# Altium footprint library PCB - LIGHT PIPE - BIVAR SLP-1-3.PCBLIB: 1 footprints
Each footprint in its own frame and in the unit in brackets; x right, y up, seen from the top. Pads: shape width x height; smd on the part's side, far side on the other; paste and mask are expansions set on the pad; w line width, h text height; cw(c..) or ccw(c..) is an arc to the next point about the centre after c.
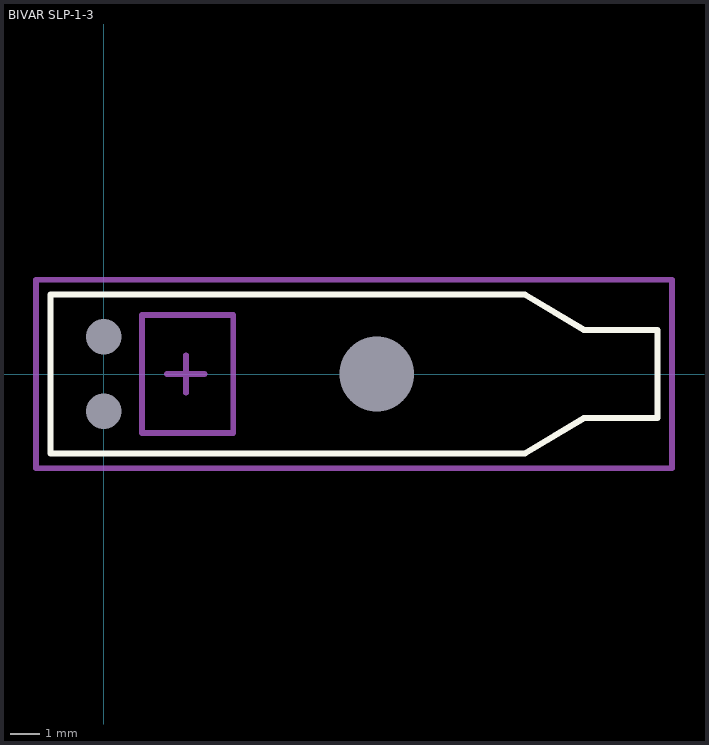
[diagram p0: the footprint, top view; thin cyan lines are the x and y axes]

## BIVAR SLP-1-3 [mm]
height 6
pads (3):
  rect 0x0 hole 1.2 unplated: M(0,-1.27) M(0,1.27)
  rect 0x0 hole 2.54 unplated: M(9.271,0)
Top Overlay:
  lines w0.2: -1.8,-2.7 -1.8,0 -1.8,2.7 14.3,2.7 16.3,1.5 18.8,1.5 18.8,0 18.8,-1.5 16.3,-1.5 14.3,-2.7 -1.8,-2.7
Mechanical 1:
  lines w0.2: 2.159,0 3.429,0 ; 2.794,-0.635 2.794,0.635 ; 1.3,-2 4.4,-2 4.4,2 1.3,2 1.3,-2
Mechanical 15:
  lines w0.2: -2.3,-3.2 19.3,-3.2 19.3,3.2 -2.3,3.2 -2.3,-3.2
3D body "SLP-1-3.STEP": height 5.97, standoff -2.34, extent -1.778,-2.769 18.796,2.769